# Altium footprint library ATK-2014-09-12.PcbLib: 436 footprints (part 3 of 28)
Each footprint in its own frame and in the unit in brackets; x right, y up, seen from the top. Pads: shape width x height; smd on the part's side, far side on the other; paste and mask are expansions set on the pad; w line width, h text height; cw(c..) or ccw(c..) is an arc to the next point about the centre after c.
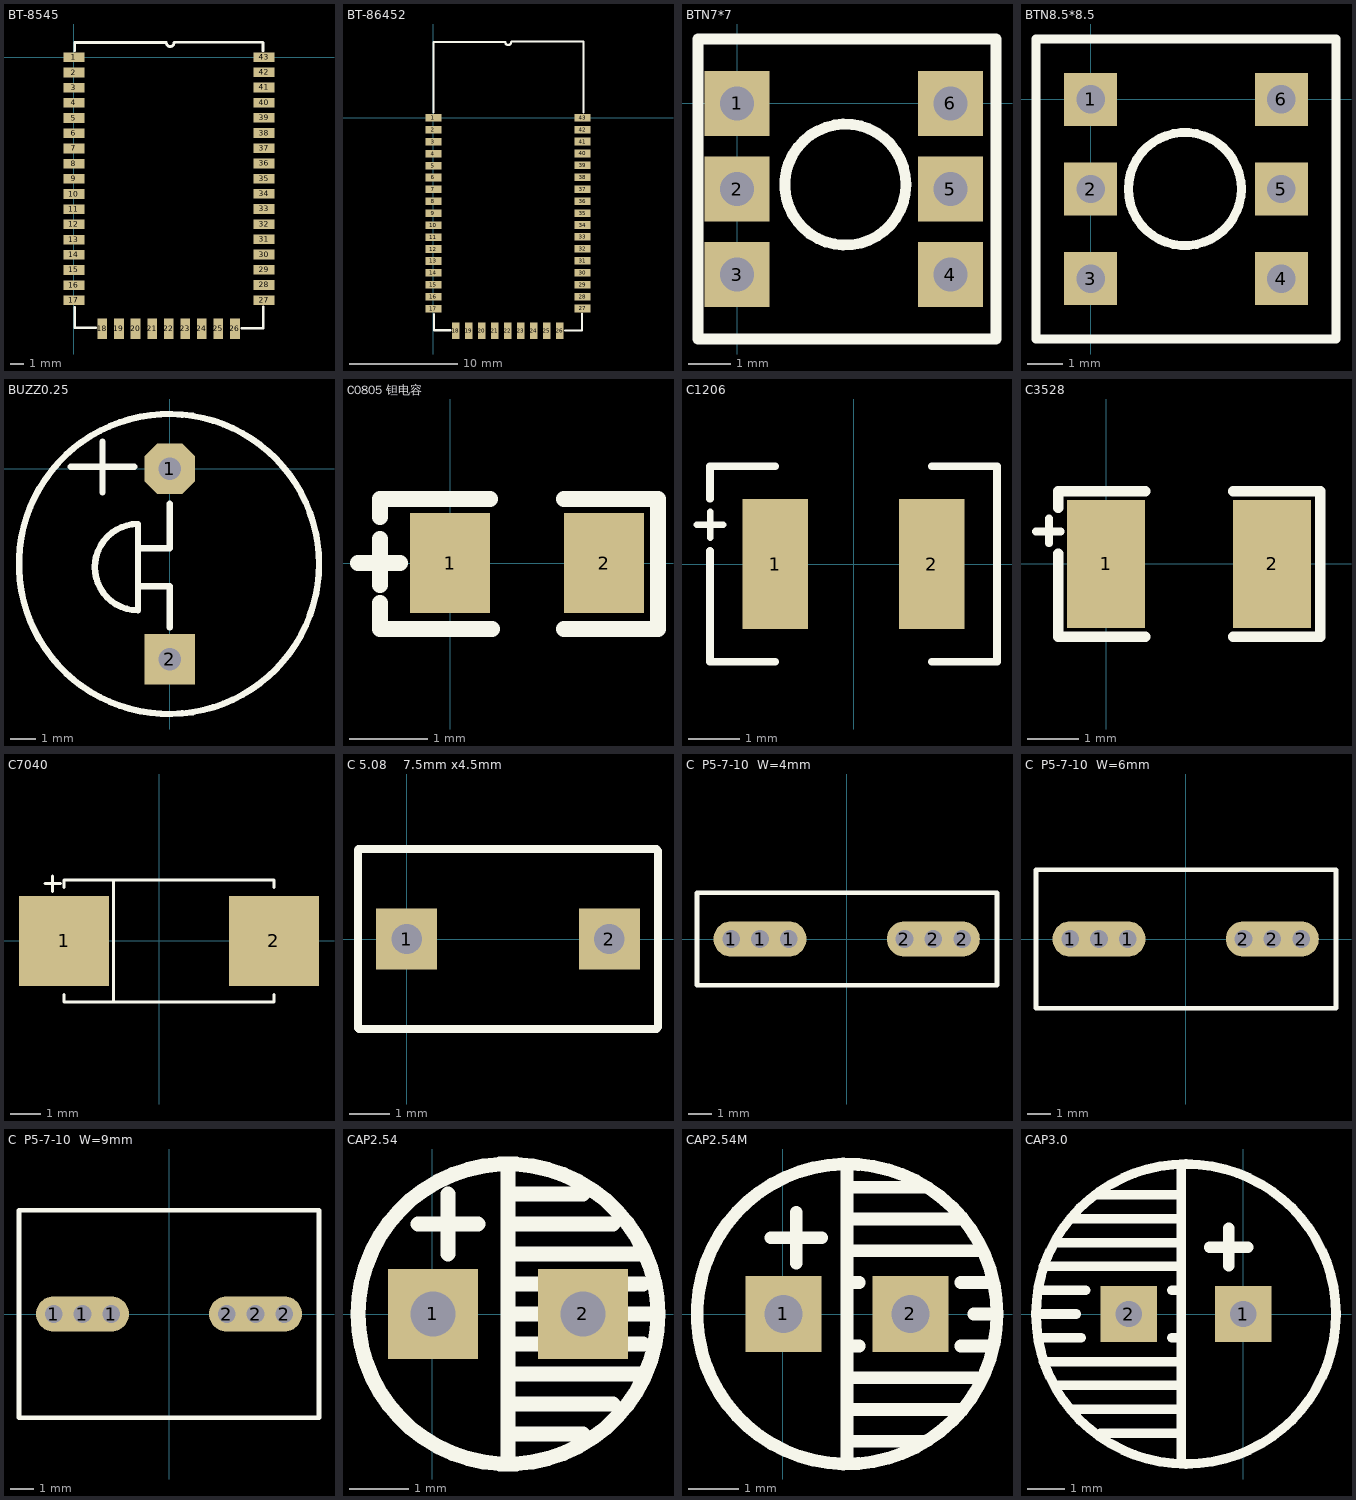
[diagram p2: the footprints below, top view; thin cyan lines are the x and y axes]

## BT-8545 [mm]
pads (43):
  rect 1.5x0.7 smd: 1(0,0) 2(0,-1.1) 3(0,-2.2) 4(0,-3.3) 5(0,-4.4) 6(0,-5.5) 7(0,-6.6) 8(0,-7.7) 9(0,-8.8) 10(0,-9.9) 11(0,-11) 12(0,-12.1) 13(0,-13.2) 14(0,-14.3) 15(0,-15.4) 16(0,-16.5) 17(0,-17.6) 27(13.761,-17.583) 28(13.761,-16.483) 29(13.761,-15.383) 30(13.761,-14.283) 31(13.761,-13.183) 32(13.761,-12.083) 33(13.761,-10.983) 34(13.761,-9.883) 35(13.761,-8.783) 36(13.761,-7.683) 37(13.761,-6.583) 38(13.761,-5.483) 39(13.761,-4.383) 40(13.761,-3.283) 41(13.761,-2.183) 42(13.761,-1.083) 43(13.761,0.017)
  rect 0.7x1.5 smd: 18(2.057,-19.648) 19(3.257,-19.648) 20(4.457,-19.648) 21(5.657,-19.648) 22(6.857,-19.648) 23(8.057,-19.648) 24(9.257,-19.648) 25(10.457,-19.648) 26(11.657,-19.648)
Top Overlay:
  lines w0.15: 13.68,1.052 13.712,1.083
  lines w0.2: 0.054,0.479 0.053,0.48 0.053,1.065 6.674,1.065 6.688,1.052 ccw(c6.963,1.052) 7.238,1.052 7.269,1.083 12.159,1.083 13.649,1.083 13.68,1.052 13.68,0.481 ; 0.055,-18.11 0.055,-19.591 1.549,-19.591 ; 12.141,-19.617 13.712,-19.617 13.712,-18.059 ; 13.68,0.481 13.681,0.481

## BT-86452 [mm]
pads (43):
  rect 1.5x0.7 smd: 1(0,0) 2(0,-1.1) 3(0,-2.2) 4(0,-3.3) 5(0,-4.4) 6(0,-5.5) 7(0,-6.6) 8(0,-7.7) 9(0,-8.8) 10(0,-9.9) 11(0,-11) 12(0,-12.1) 13(0,-13.2) 14(0,-14.3) 15(0,-15.4) 16(0,-16.5) 17(0,-17.6) 27(13.761,-17.583) 28(13.761,-16.483) 29(13.761,-15.383) 30(13.761,-14.283) 31(13.761,-13.183) 32(13.761,-12.083) 33(13.761,-10.983) 34(13.761,-9.883) 35(13.761,-8.783) 36(13.761,-7.683) 37(13.761,-6.583) 38(13.761,-5.483) 39(13.761,-4.383) 40(13.761,-3.283) 41(13.761,-2.183) 42(13.761,-1.083) 43(13.761,0.017)
  rect 0.7x1.5 smd: 18(2.057,-19.648) 19(3.257,-19.648) 20(4.457,-19.648) 21(5.657,-19.648) 22(6.857,-19.648) 23(8.057,-19.648) 24(9.257,-19.648) 25(10.457,-19.648) 26(11.657,-19.648)
Top Overlay:
  lines w0.2: 0,0.483 0,7 6.622,7 ccw(c6.897,7) 7.172,7 ; 0.055,-18.085 0.055,-19.591 1.575,-19.591 ; 7.214,7.036 13.835,7.036 13.835,0.518 ; 12.167,-19.617 13.712,-19.617 13.712,-18.034

## BTN7*7 [mil] "7mm*7mm"
height 393.7
pads (6):
  rect 60x60 hole 31.5: 1(0,-0.06) 2(0,-79.06) 3(0,-158.06) 4(197,-158.06) 5(197,-79.06) 6(197,-0.06)
Top Overlay:
  circle w10: c100,-75 r55.9
  lines w10: -36,-217.56 239,-217.56 239,59.44 -36,59.44 -36,-217.56

## BTN8.5*8.5 [mm] "8.5MM*8.5MM"
height 20
pads (6):
  rect 1.5x1.5 hole 0.8: 1(0,0) 2(0,-2.54) 3(0,-5.08) 4(5.4,-5.08) 5(5.4,-2.54) 6(5.4,0)
Top Overlay:
  circle w0.254: c2.667,-2.54 r1.6
  lines w0.254: -1.55,-6.79 -1.55,1.71 6.95,1.71 6.95,-6.79 -1.55,-6.79

## BUZZ0.25 [mil]
pads (2):
  oct 80x80 hole 35.43: 1(0,0)
  rect 80x80 hole 35.43: 2(0,-300)
Top Overlay:
  circle w10: c-1.22,-150 r236.22
  lines w10: -156,3 -56,3 ; -106,-37 -106,43 ; -50,-185 0,-185 0,-250 ; -50,-125 0,-125 0,-55 ; -50,-223.01 cw(c-50,-155) -50,-86.99 -50,-223.01

## C0805 钽电容 [mil] "45.0mm x 2.3mm"
pads (2):
  rect 40x50 smd: 1(0,-0.06) 2(77,-0.06)
Top Overlay:
  lines w8: -46,0 -25,0 ; -35,-20 -35,-33 21,-33 ; -35,-11 -35,12 ; -35,23 -35,32 20,32 ; 57,-33 104,-33 104,32 57,32

## C1206 [mil] "C1206"
height 1
pads (2):
  rect 50x100 smd: 1(-60,0) 2(60,0)
Top Overlay:
  lines w5: -120,30 -100,30 ; -110,20 -110,40
  lines w6: -110,10 -110,-75 -60,-75 ; -110,50 -110,75 ; -100,75 -110,75 ; -60,75 -110,75 ; 60,-75 110,-75 110,75 60,75

## C3528 [mm] "1210 3.5MM*2.8MM"
height 2
pads (2):
  rect 1.524x2.5 smd: 1(0,0) 2(3.246,0)
Top Overlay:
  lines w0.152: -1.372,0.635 -0.889,0.635 ; -1.118,0.406 -1.118,0.889
  lines w0.203: -0.94,0.2 -0.94,-1.422 0.762,-1.422 ; -0.94,1.1 -0.94,1.422 0.762,1.422 ; 2.489,-1.422 4.191,-1.422 4.191,1.422 2.489,1.422

## C7040 [mm] "7MM*4MM"
height 2
pads (2):
  rect 3x3 smd: 1(-3.175,0) 2(3.81,0)
Top Overlay:
  lines w0.1: -3.81,1.905 -3.302,1.905 ; -3.556,1.651 -3.556,2.159 ; -3.175,-1.778 -3.175,-2.032 3.81,-2.032 3.81,-1.778 ; -3.175,1.778 -3.175,2.032 3.81,2.032 3.81,1.778 ; -1.524,-2.032 -1.524,2.032

## C 5.08    7.5mm x4.5mm [mil]
pads (2):
  rect 60x60 hole 30: 1(0,0) 2(200,0)
Top Overlay:
  lines w7.87: -48,-88 -48,88 -47.42,88.58 246.42,88.58 248,87 248,-87 246.42,-88.58 -47.24,-88.58

## C  P5-7-10  W=4mm [mil] "P5/P7/P10      W=4mm"
height 354.33
pads (6):
  round 60 hole 30: 1(-196.85,0) 1(-98.43,0) 2(98.43,0) 2(196.85,0)
  oval 157.48x60 hole 30: 1(-147.64,0) 2(147.64,0)
Top Overlay:
  lines w7.87: -255,-78.74 256,-78.74 ; -255,78.74 256,78.74
  lines w8: -255,-78.74 -255,78.74 ; 256,-78.74 256,78.74

## C  P5-7-10  W=6mm [mil] "P5/P7/P10      W=6mm"
height 511.81
pads (6):
  round 60 hole 30: 1(-196.85,0) 1(-98.43,0) 2(98.43,0) 2(196.85,0)
  oval 157.48x60 hole 30: 1(-147.64,0) 2(147.64,0)
Top Overlay:
  lines w7.87: -255,-118 256,-118 ; -255,118 256,118
  lines w8: -255,-118 -255,118 ; 256,-118 256,118

## C  P5-7-10  W=9mm [mil] "P5/P7/P10      W=9mm"
height 511.81
pads (6):
  round 60 hole 30: 1(-196.85,0) 1(-98.43,0) 2(98.43,0) 2(196.85,0)
  oval 157.48x60 hole 30: 1(-147.64,0) 2(147.64,0)
Top Overlay:
  lines w7.87: -256,-177 256,-177 ; -256,177 256,177
  lines w8: -256,-177 -256,177 ; 256,-177 256,177

## CAP2.54 [mil] "RB.1/.2"
height 196.85
pads (2):
  rect 60x60 hole 30: 1(0.42,0.23) 2(100.42,0.23)
Top Overlay:
  circle w10: c50.42,0.23 r100
  lines w10: -9.58,60.23 30.42,60.23 ; 10.42,40.23 10.42,80.23 ; 50.42,-99.77 50.42,100.23 ; 50.42,-79.77 100.42,-79.77 ; 50.42,-59.77 120.42,-59.77 ; 50.42,-39.77 140.42,-39.77 ; 50.42,-19.77 140.42,-19.77 ; 50.42,0.23 150.42,0.23 ; 50.42,20.23 140.42,20.23 ; 50.42,40.23 140.42,40.23 ; 50.42,60.23 120.42,60.23 ; 50.42,80.23 100.42,80.23

## CAP2.54M [mil] "6mm*8mm"
height 314.96
pads (2):
  rect 60x60 hole 30: 1(0.42,0.23) 2(100.42,0.23)
Top Overlay:
  circle w10: c50.42,0.23 r118.11
  lines w10: -9.58,60.23 30.42,60.23 ; 10.42,40.23 10.42,80.23 ; 50.42,-115 50.42,115 ; 50.42,-100 110,-100 ; 50.42,-75 140,-75 ; 50.42,-50 155,-50 ; 50.42,-25 60,-25 ; 50.42,25 60,25 ; 50.42,50 155,50 ; 50.42,75 140,75 ; 50.42,100 110,100 ; 140,-25 165,-25 ; 140,25 165,25 ; 150.23,0.23 168.53,0.23

## CAP3.0 [mm] "100V 10uF"
height 12
pads (2):
  rect 1.5x1.5 hole 0.7: 1(0,0) 2(-3.048,0)
Top Overlay:
  circle w0.254: c-1.524,0 r4
  lines w0.254: -5.461,-0.635 -4.318,-0.635 ; -5.461,0 -4.445,0 ; -5.461,0.635 -4.191,0.635 ; -5.334,-1.27 -1.651,-1.27 ; -5.334,1.27 -1.651,1.27 ; -4.953,-1.905 -1.651,-1.905 ; -4.953,1.905 -1.651,1.905 ; -4.572,-2.54 -1.651,-2.54 ; -4.572,2.54 -1.651,2.54 ; -3.937,3.175 -1.651,3.175 ; -3.81,-3.175 -1.651,-3.175 ; -1.905,-0.635 -1.651,-0.635 ; -1.905,0.635 -1.651,0.635 ; -1.651,-3.937 -1.651,3.937
  lines w0.305: -0.897,1.778 0.127,1.778 ; -0.381,1.286 -0.381,2.286